# EAGLE library part OPTO-DARLINGTON (library Pinoccio)
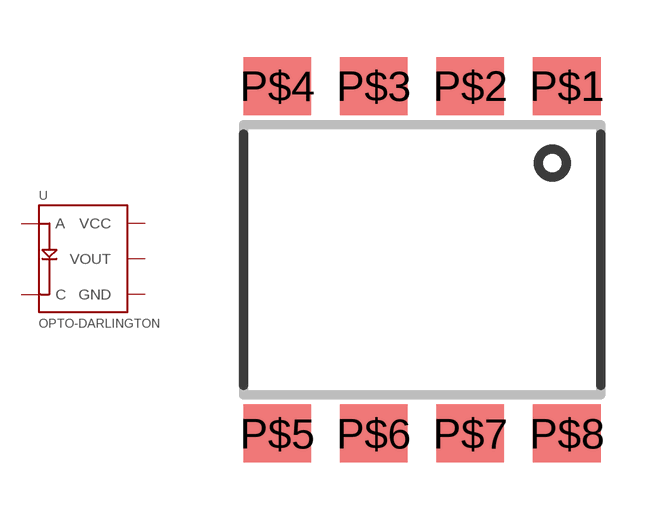
[diagram p39: symbol with the pads of 6N138S; footprint 6N138S]

Designator prefix -

## OPTO-DARLINGTON  [6N138S]
P$1  NC$1
P$2  A
P$3  C
P$4  NC$2
P$5  GND
P$6  VOUT
P$7  NC$3
P$8  VCC

## Footprint 6N138S (pad centres in mm)
smd 1.778 x 1.524: P$1 8.509,9.906; P$2 5.969,9.906; P$3 3.429,9.906; P$4 0.889,9.906; P$5 0.889,0.762; P$6 3.429,0.762; P$7 5.969,0.762; P$8 8.509,0.762